# EAGLE library part 108-1MD1T1B1M2QE-EVX (library keves)
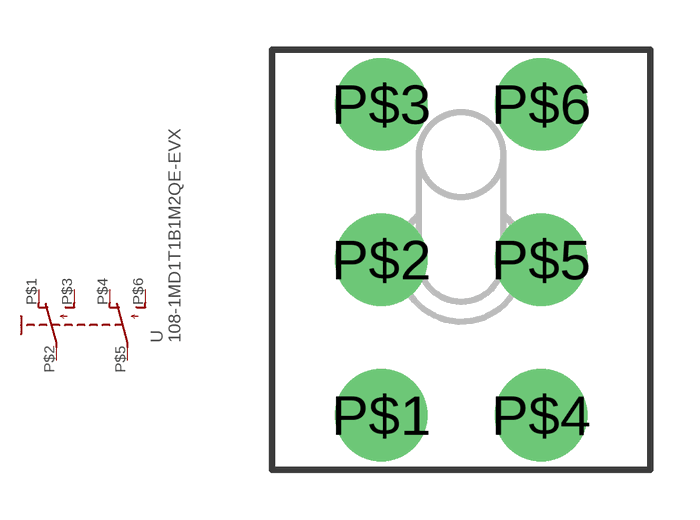
[diagram p34: symbol with the pads of 108-1MD1T1B1M2QE-EVX; footprint 108-1MD1T1B1M2QE-EVX]

Designator prefix -

## 108-1MD1T1B1M2QE-EVX  [108-1MD1T1B1M2QE-EVX]
P$1  O  pas
P$2  P  pas
P$3  S  pas
P$4  O1  pas
P$5  P1  pas
P$6  S1  pas

## Footprint 108-1MD1T1B1M2QE-EVX (pad centres in mm)
drill 1.86: P$1 -2.415,-4.7; P$2 -2.415,0; P$3 -2.415,4.7; P$4 2.415,-4.7; P$5 2.415,0; P$6 2.415,4.7